# EAGLE library part ATTINY85 (library Semiconductors > Embedded Processors & Controllers > Microcontrollers - MCU)
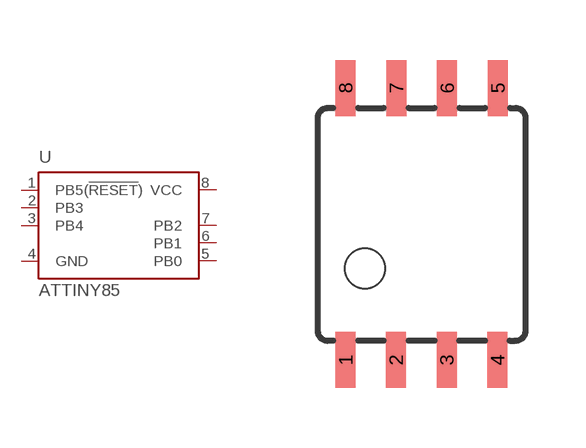
[diagram p0: symbol with the pads of 8S2; footprint 8S2]

Designator prefix U

## ATTINY85  [8S2]
1  PB5(!RESET!)  pwr
2  PB3
3  PB4
4  GND
5  PB0  pwr
6  PB1
7  PB2
8  VCC

## Footprint 8S2 (pad centres in mm)
8S2 8-lead, 0.208 Body Plastic Small Outline Package (EIAJ) Source: http://www.atmel.com/dyn/resources/prod_documents/2535S.pdf
smd 0.5 x 1.4: 1 -1.905,-3.404; 2 -0.645,-3.404; 3 0.625,-3.404; 4 1.895,-3.404; 5 1.905,3.404; 6 0.635,3.404; 7 -0.635,3.404; 8 -1.905,3.404